# EAGLE library part MPU-9250 (library custom-devices)
Nine-Axis (Gyro + Accelerometer + Compass) MEMS MotionTracking™ Device
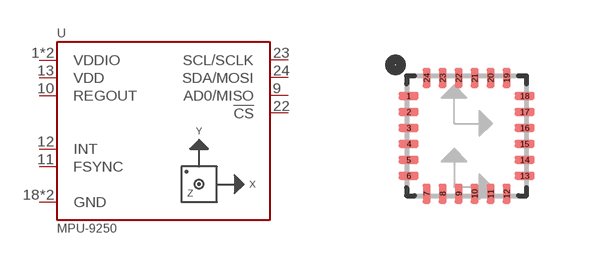
[diagram p3: symbol with the pads of MPU-3X3; footprint MPU-3X3]

Designator prefix U

## MPU-9250 (DIGI-KEY: 1428-1019-1-ND)  [MPU-3X3]
1  VDDIO
8  VDDIO
9  AD0/MISO
10  REGOUT
11  FSYNC
12  INT
13  VDD
18  GND
20  GND
22  !CS
23  SCL/SCLK
24  SDA/MOSI

## Footprint MPU-3X3 (pad centres in mm)
smd 0.5 x 0.2: 1 -1.45,1; 2 -1.45,0.6; 3 -1.45,0.2; 4 -1.45,-0.2; 5 -1.45,-0.6; 6 -1.45,-1; 13 1.45,-1; 14 1.45,-0.6; 15 1.45,-0.2; 16 1.45,0.2; 17 1.45,0.6; 18 1.45,1
smd 0.2 x 0.5: 7 -1,-1.45; 8 -0.6,-1.45; 9 -0.2,-1.45; 10 0.2,-1.45; 11 0.6,-1.45; 12 1,-1.45; 19 1,1.45; 20 0.6,1.45; 21 0.2,1.45; 22 -0.2,1.45; 23 -0.6,1.45; 24 -1,1.45